# Altium footprint library SparkFun-Aesthetics.PCBLIB: 126 footprints (part 3 of 8)
Each footprint in its own frame and in the unit in brackets; x right, y up, seen from the top. Pads: shape width x height; smd on the part's side, far side on the other; paste and mask are expansions set on the pad; w line width, h text height; cw(c..) or ccw(c..) is an arc to the next point about the centre after c.
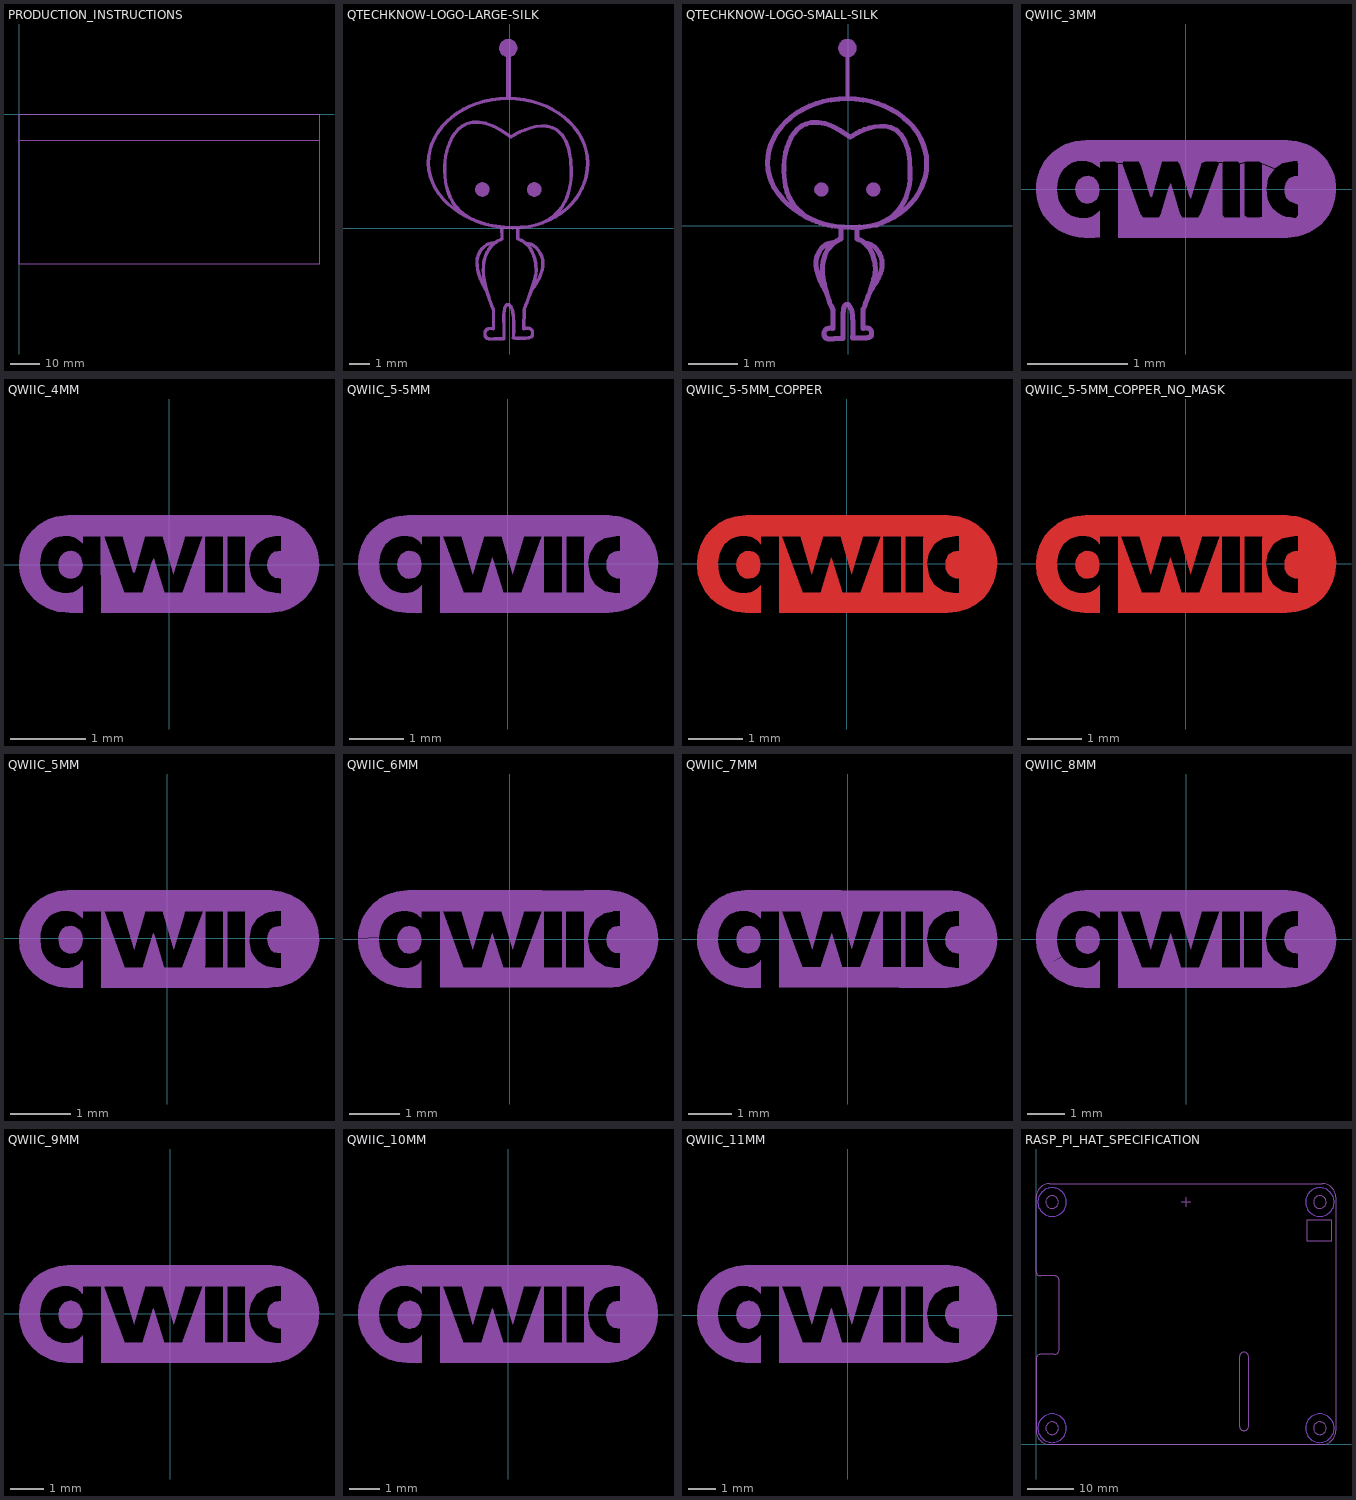
[diagram p2: the footprints below, top view; thin cyan lines are the x and y axes]

## PRODUCTION_INSTRUCTIONS [mil]
tDocu:
  lines w8: 0,-350 0,-2000 4000,-2000 4000,-350 ; 0,-350 0,0 4000,0 4000,-350 ; 0,-350 4000,-350
  text "Production Instructions:" at 50,-50 h102
  text "(Add these comments when uploading gerbers.)" at 50,-250 h59.5

## QTECHKNOW-LOGO-LARGE-SILK [mil]
tPlace:
  drawing of 317 lines, arcs and shapes, not listed

## QTECHKNOW-LOGO-SMALL-SILK [mil]
tPlace:
  drawing of 280 lines, arcs and shapes, not listed

## QWIIC_3MM [mil]
tPlace:
  drawing of 2 lines, arcs and shapes, not listed

## QWIIC_4MM [mil]
tPlace:
  drawing of 2 lines, arcs and shapes, not listed

## QWIIC_5-5MM [mil]
tPlace:
  drawing of 2 lines, arcs and shapes, not listed

## QWIIC_5-5MM_COPPER [mil]
Top:
  region: 195 vertices and 0 holes, not listed, extent -108.08,-35.24 108.29,34.96
  region: -79,3.42 -79.63,-0.64 -79.02,-4.69 -78.05,-6.5 -76.93,-8.19 -75.29,-9.42 -73.47,-10.25 -71.46,-10.66 -69.45,-10.48 -67.44,-10.06 -65.78,-8.86 -64.33,-7.47 -63.33,-5.68 -62.68,-3.76 -62.36,-1.73 -62.35,0.29 -62.66,2.32 -63.28,4.25 -64.27,6.04 -65.7,7.46 -67.35,8.69 -69.36,9.1 -71.37,9.32 -73.38,8.9 -75.22,8.11 -76.86,6.88 -78,5.21

## QWIIC_5-5MM_COPPER_NO_MASK [mil]
Top:
  region: 195 vertices and 0 holes, not listed, extent -108.08,-35.24 108.29,34.96
  region: -79,3.42 -79.63,-0.64 -79.02,-4.69 -78.05,-6.5 -76.93,-8.19 -75.29,-9.42 -73.47,-10.25 -71.46,-10.66 -69.45,-10.48 -67.44,-10.06 -65.78,-8.86 -64.33,-7.47 -63.33,-5.68 -62.68,-3.76 -62.36,-1.73 -62.35,0.29 -62.66,2.32 -63.28,4.25 -64.27,6.04 -65.7,7.46 -67.35,8.69 -69.36,9.1 -71.37,9.32 -73.38,8.9 -75.22,8.11 -76.86,6.88 -78,5.21
Top Solder:
  drawing of 2 lines, arcs and shapes, not listed

## QWIIC_5MM [mil]
tPlace:
  drawing of 2 lines, arcs and shapes, not listed

## QWIIC_6MM [mil]
tPlace:
  drawing of 26 lines, arcs and shapes, not listed

## QWIIC_7MM [mil]
tPlace:
  drawing of 24 lines, arcs and shapes, not listed

## QWIIC_8MM [mil]
tPlace:
  drawing of 26 lines, arcs and shapes, not listed

## QWIIC_9MM [mil]
tPlace:
  drawing of 2 lines, arcs and shapes, not listed

## QWIIC_10MM [mil]
tPlace:
  drawing of 2 lines, arcs and shapes, not listed

## QWIIC_11MM [mil]
tPlace:
  drawing of 2 lines, arcs and shapes, not listed

## RASP_PI_HAT_SPECIFICATION [mil]
Top keep-out:
  circle w10: c137.8,2066.93 r122.05
  circle w10: c2421.26,2066.93 r122.05
  circle w10: c2421.26,137.8 r122.05
  circle w10: c137.8,137.8 r122.05
Bottom keep-out:
  circle w10: c137.8,137.8 r122.05
  circle w10: c2421.26,137.8 r122.05
  circle w10: c2421.26,2066.93 r122.05
  circle w10: c137.8,2066.93 r122.05
Dimension:
  lines w10: 0,118.11 0,728.35 cw(c39.37,728.35) 39.37,767.72 157.48,767.72 ccw(c157.48,807.09) 196.85,807.09 196.85,1397.64 ccw(c157.48,1397.64) 157.48,1437.01 39.37,1437.01 cw(c39.37,1476.38) 0,1476.38 0,2106.3 cw(c118.11,2106.3) 118.11,2224.41 2440.94,2224.41 cw(c2440.95,2106.3) 2559.06,2106.3 2559.06,118.11 cw(c2440.95,118.11) 2440.94,0 118.11,0 cw(c118.11,118.11) 0,118.11 ; 1735.43,155.91 1735.43,746.46 cw(c1774.8,746.46) 1774.8,785.83 cw(c1774.8,746.46) 1814.17,746.46 1814.17,155.91 cw(c1774.8,155.91) 1774.8,116.54 cw(c1774.8,155.91) 1735.43,155.91
tDocu:
  circle w10: c137.8,137.8 r54.13
  circle w10: c2421.26,137.8 r54.13
  circle w10: c137.8,2066.93 r54.13
  circle w10: c2421.26,2066.93 r54.13
  lines w10: 1240.16,2066.93 1318.9,2066.93 ; 1279.53,2027.56 1279.53,2106.3 ; 2314.96,1732.28 2519.69,1732.28 2519.69,1917.32 2314.96,1917.32 2314.96,1732.28